# EAGLE library part VSOP38338 (library VSOP38338)
Vishay VSOP38338, 38kHz IR Receiver, 2.5V - 5V, SMT, 2 x 2 x 0.76mm Source: Datasheet <https://datasheet.datasheetarchive.com/originals/distributors/Datasheets-DGA1/137501.pdf>
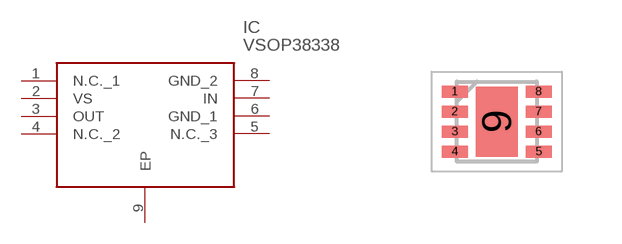
[diagram p0: symbol with the pads of SON50P200X200X81-9N; footprint SON50P200X200X81-9N]

Designator prefix IC

## VSOP38338 (Description: Vishay VSOP38338, 38kHz IR Receiver, 2.5V - 5V, SMT, 2 x 2 x 0.76mm; Height: 0.81mm; Manufacturer_Name: Vishay; Manufacturer_Part_Number: VSOP38338; Mouser_Part_Number: 782-VSOP38338; Mouser_Price-Stock: https://www.mouser.co.uk/ProductDetail/Vishay-Semiconductors/VSOP38338?qs=lNOV0pHJI3hgEVpw1emspw%3D%3D)  [SON50P200X200X81-9N]
1  N.C._1
2  VS
3  OUT
4  N.C._2
5  N.C._3
6  GND_1
7  IN
8  GND_2
9  EP

## Footprint SON50P200X200X81-9N (pad centres in mm)
VSOP38338
smd 0.65 x 0.3: 1 -1.05,0.75; 2 -1.05,0.25; 3 -1.05,-0.25; 4 -1.05,-0.75; 5 1.05,-0.75; 6 1.05,-0.25; 7 1.05,0.25; 8 1.05,0.75
smd 1.05 x 1.75: 9 0,0